# Altium schematic symbol library BFP720FESD.SchLib: 1 symbol
Pins are listed as number, name and electrical type; pins without a type are passive.

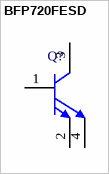
[diagram p0: symbol BFP720FESD]

## BFP720FESD
designator Q?
Robust High Performance Low Noise Bipolar RF Transistor, 4.2 V VCEO, 25 mA IC, 27 dB Gmax, TSFP-4-1, Green; Manufacturer: Infineon; PartNumber: BFP720FESD; Gmax (typ): 27 dB; Green: yes; Group: Robust ultra low noise SiGe; IC (max): 25 mA; NFmin (typ): 0.6 dB; Ptot (max): 100 mW; VCEO (max): 4.2 V; DatasheetVersion: Rev. 1.1; PackageReference: TSFP-4-1; PackageDescription: 4-Pin Thin Small Flat Package, 0.8 x 1.4 mm Body, 0.5 mm Pitch; Halogen-free: yes; Mounting Technology: Surface Mount; ComponentLink1Description: Manufacturer URL; ComponentLink1URL: http://www.infineon.com/; ComponentLink2Description: Datasheet; ComponentLink2URL: http://www.infineon.com/dgdl/bfp720fesd.pdf?folderId=db3a30431400ef68011425b291f205c5&fileId=db3a304329a0f6ee0129d0399cc505a0&location=en.Products.RF.RF_Transistors_.Ultra_Low_Noise_SiGe_C_Transistors_for_use_up_to_12_GHz.DATASHEET.bfp720fesd.pdf; ComponentLink3Description: Package Specification; ComponentLink3URL: http://www.infineon.com/dgdl/TSFP-4-1%2C-2-Package_Overview.pdf?folderId=db3a30431936bc4b011953b7d203683d&fileId=db3a30431936bc4b011953c249663734
footprint INF-TSFP-4-1_V (SOP-Flat, Body 0.8x1.4 mm, Pitch 1 mm)
pins: 1 B, 2 E, 3 C, 4 E